# Altium schematic symbol library Imponatornaal.SchLib: 1 symbol
Pins are listed as number, name and electrical type; pins without a type are passive.

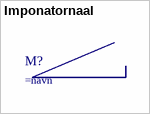
[diagram p0: symbol Imponatornaal]

## Imponatornaal
designator M?
footprint Imponatornaal_liten
pins: 0